# EAGLE library part 621X0621821 (library Board-to-Board (rev18a))
WR-PHD 2.00mm Dual SMT Socket Header Low Profile, 6 Pins=>Code : Con_BTB_SHD_2.00_2_621x0621821(Packaging:x = 0: Tube x = 3: Tape & Reel with Cap) <http://katalog.we-online.de/media/thumbs2/eican/thb_Con_BTB_SHD_2.00_2_6210xx21821_pf2.jpg> 6210xx21821 Details see: http://katalog.we-online.de/en/em/PHD_2_0_SMT_DUAL_SOCKET_HEADER_LOW_PROFILE_6210XX21821 6213xx21821 Details see: http://katalog.we-online.de/en/em/PHD_2_0_SMT_DUAL_SOCKET_HEADER_LOW_PROFILE_REEL_6213XX21821 2014 (C) Würth Elektronik
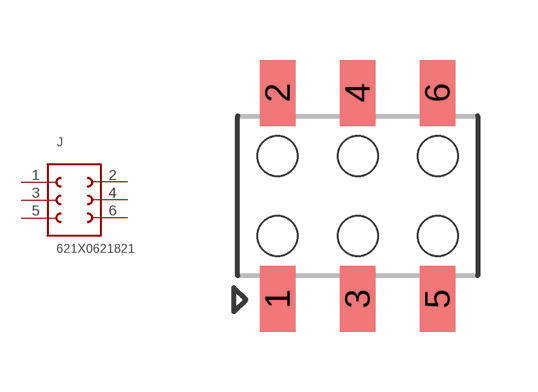
[diagram p264: symbol with the pads of 621X0621821; footprint 621X0621821]

Designator prefix J

## 621X0621821  [621X0621821]
1  1  pas
2  6  pas
3  2  pas
4  5  pas
5  3  pas
6  4  pas

## Footprint 621X0621821 (pad centres in mm)
WR-PHD 2.00mm Dual SMT Socket Header Low Profile, 6 Pins
smd 0.89 x 1.65: 1 -2,-2.575; 2 -2,2.575; 3 0,-2.575; 4 0,2.575; 5 2,-2.575; 6 2,2.575
hole 1 at -2,1
hole 1 at -2,-1
hole 1 at 0,1
hole 1 at 0,-1
hole 1 at 2,-1
hole 1 at 2,1